# Altium footprint library Diodes.PcbLib: 1 footprints
Each footprint in its own frame and in the unit in brackets; x right, y up, seen from the top. Pads: shape width x height; smd on the part's side, far side on the other; paste and mask are expansions set on the pad; w line width, h text height; cw(c..) or ccw(c..) is an arc to the next point about the centre after c.
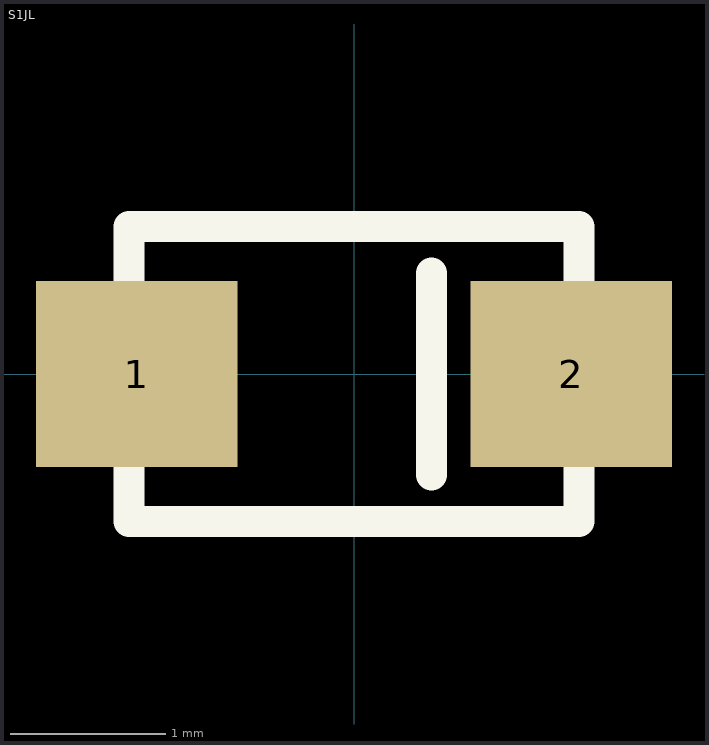
[diagram p0: the footprint, top view; thin cyan lines are the x and y axes]

## S1JL [mm] "TAIWAN SEMICONDUCTOR  S1JL  Standard Power Diode, 600 V, 1 A, Single, 1.1 V, 1.8 µs, 30 A"
pads (2):
  rect 1.3x1.2 smd: 1(-1.4,0) 2(1.4,0)
Top Overlay:
  lines w0.2: 0.5,-0.65 0.5,0.65 ; -1.45,-0.95 1.45,-0.95 1.45,0.95 -1.45,0.95 -1.45,-0.95